# Altium footprint library Connectors.PcbLib: 19 footprints (part 1 of 2)
Each footprint in its own frame and in the unit in brackets; x right, y up, seen from the top. Pads: shape width x height; smd on the part's side, far side on the other; paste and mask are expansions set on the pad; w line width, h text height; cw(c..) or ccw(c..) is an arc to the next point about the centre after c.
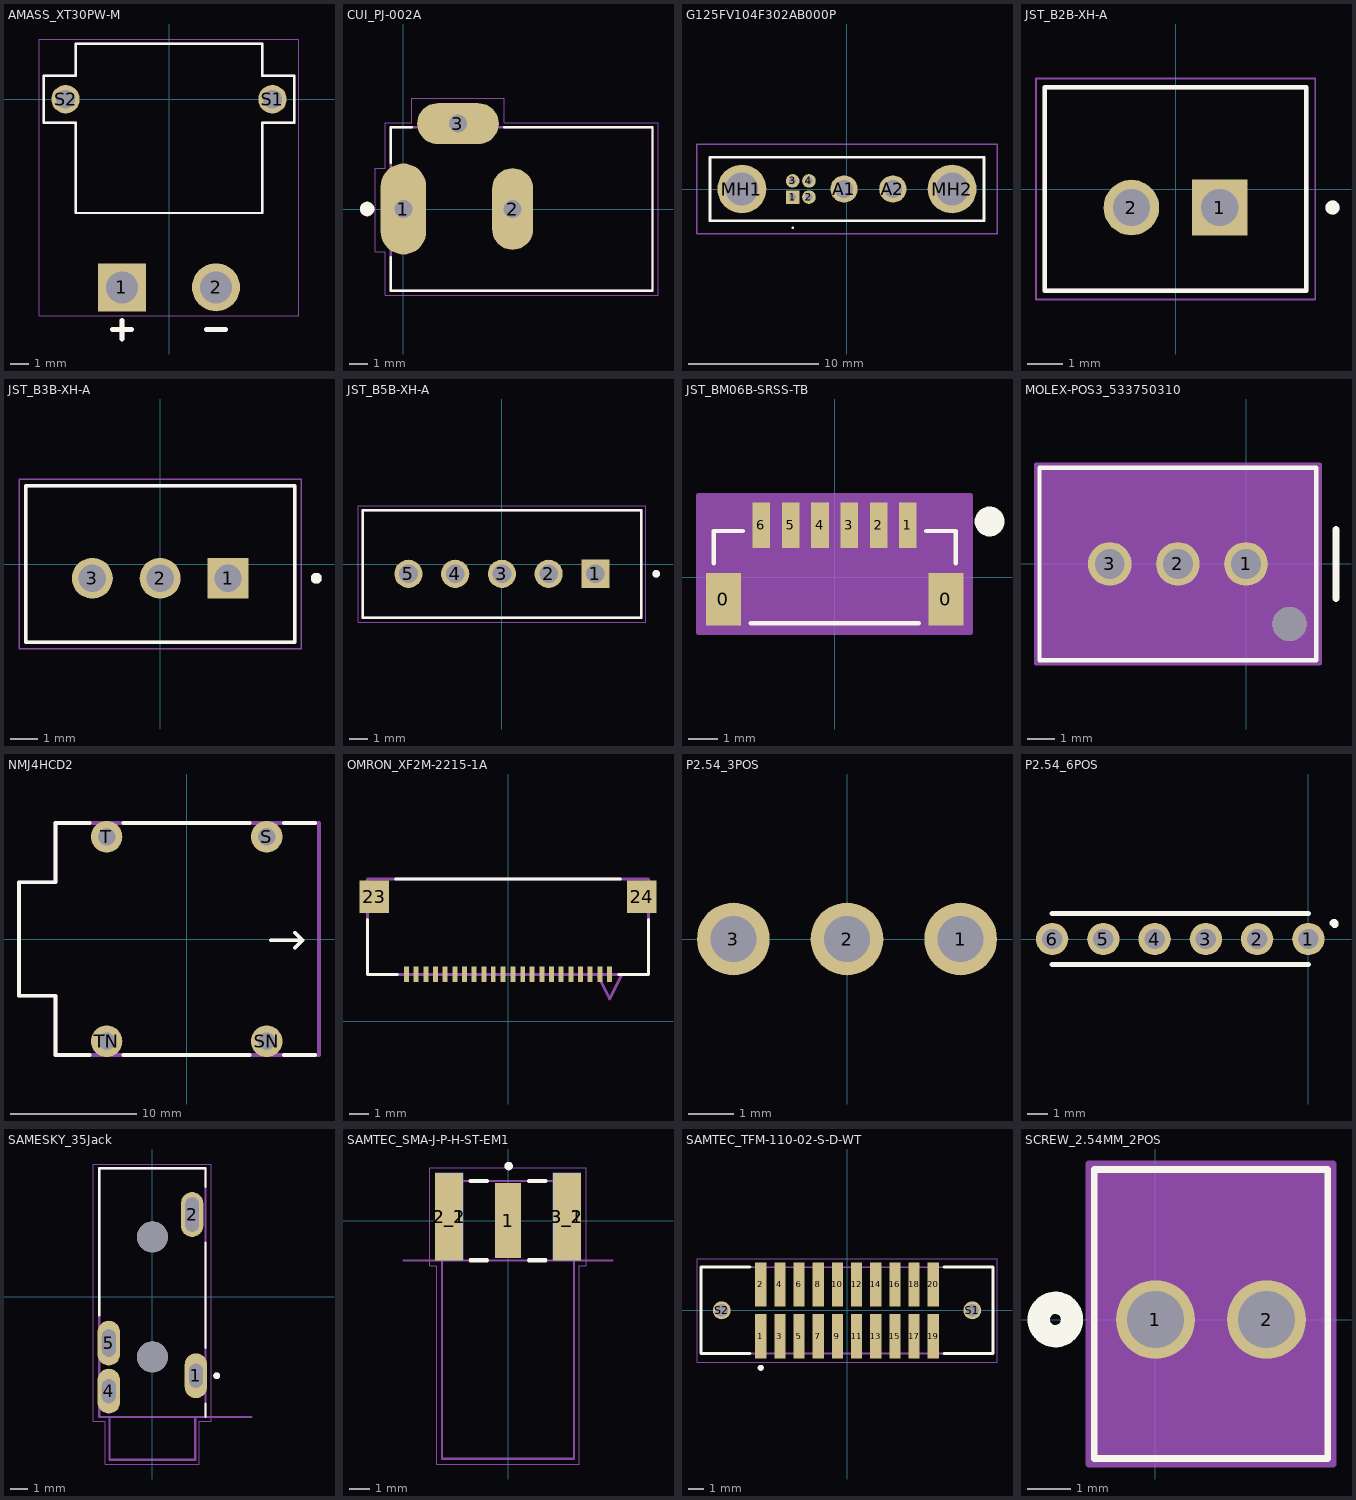
[diagram p0: the footprints below, top view; thin cyan lines are the x and y axes]

## AMASS_XT30PW-M [mm]
height 5
pads (4):
  rect 2.55x2.55 / inner round 2.55 / far side rect 2.55x2.55 hole 1.7: 1(-2.5,-10)
  round 2.55 hole 1.7: 2(2.5,-10)
  round 1.508 hole 1: S1(5.5,0) S2(-5.5,0)
Top Overlay:
  lines w0.127: -6.65,-1.25 -4.95,-1.25 -4.95,-6.05 4.95,-6.05 4.95,-1.25 6.65,-1.25 6.65,1.25 4.95,1.25 4.95,2.95 -4.95,2.95 -4.95,1.25 -6.65,1.25 -6.65,-1.25
  lines w0.254: -3,-12.25 -2,-12.25 ; -2.5,-12.75 -2.5,-11.75 ; 2,-12.25 3,-12.25
Mechanical 13:
  lines w0.127: -6.65,-1.25 -4.95,-1.25 -4.95,-6.05 4.95,-6.05 4.95,-1.25 6.65,-1.25 6.65,1.25 4.95,1.25 4.95,2.95 -4.95,2.95 -4.95,1.25 -6.65,1.25 -6.65,-1.25
  lines w0.254: -3,-12.25 -2,-12.25 ; -2.5,-12.75 -2.5,-11.75 ; 2,-12.25 3,-12.25
Mechanical 15:
  lines w0.05: -6.9,-11.525 -6.9,3.2 6.9,3.2 6.9,-11.525 -6.9,-11.525
3D body "step_temp.STEP": height 5, standoff -2, extent -6.65,-11 6.65,2.95

## CUI_PJ-002A [mm]
pads (3):
  oval 2.5x5 hole 1 square: 1(0,0)
  oval 2.25x4.5 hole 1 square: 2(6,0)
  oval 4.5x2.25 hole 1 square: 3(3,4.7)
Top Overlay:
  circle w0.4: c-2,0 r0.2
  lines w0.127: -0.7,-2.65 -0.7,-4.5 13.7,-4.5 13.7,4.5 5.55,4.5 ; -0.7,2.55 -0.7,4.5 0.45,4.5
Mechanical 13:
  lines w0.127: -0.7,-4.5 13.7,-4.5 13.7,4.5 -0.7,4.5 -0.7,-4.5
Mechanical 15:
  lines w0.05: -1.55,-2.35 -1.55,2.25 -1,2.25 -1,4.75 0.45,4.75 0.45,6.1 5.55,6.1 5.55,4.75 14,4.75 14,-4.75 -1,-4.75 -1,-2.35 -1.55,-2.35
3D body "step_temp.STEP": height 11.1, standoff -3.39, extent -0.635,-4.446 13.765,4.954

## G125FV104F302AB000P [mm]
pads (8):
  rect 1.05x1.05 hole 0.55: 1(-4.175,-0.625)
  round 1.05 hole 0.55: 2(-2.925,-0.625) 3(-4.175,0.625) 4(-2.925,0.625)
  round 2.1 hole 1.4: A1(-0.225,0) A2(3.525,0)
  round 3.75 hole 2.5: MH1(-8.075,0) MH2(8.075,0)
Top Overlay:
  lines w0.1: -4.175,-3.025 ccw(c-4.175,-2.975) -4.175,-2.925 ccw(c-4.175,-2.975) -4.175,-3.025
  lines w0.2: -10.525,-2.45 -10.525,2.45 10.525,2.45 10.525,-2.45 -10.525,-2.45
Mechanical 13:
  lines w0.1: -10.525,-2.45 10.525,-2.45 10.525,2.45 -10.525,2.45 -10.525,-2.45
Mechanical 15:
  lines w0.1: -11.525,-3.45 11.525,-3.45 11.525,3.45 -11.525,3.45 -11.525,-3.45
3D body "G125-FV104F3-02AB000P.stp": height 5.4, standoff -4.85, extent -10.525,-2.455 10.525,2.445

## JST_B2B-XH-A [mm]
height 7
pads (2):
  rect 1.575x1.575 / inner round 1.575 / far side rect 1.575x1.575 hole 1.05: 1(1.25,-0.525)
  round 1.575 hole 1.05: 2(-1.25,-0.525)
Top Overlay:
  circle w0.2: c4.44,-0.525 r0.1
  lines w0.127: -3.7,-2.875 3.7,-2.875 3.7,2.875 -3.7,2.875 -3.7,-2.875
Mechanical 13:
  circle w0.2: c4.44,-0.525 r0.1
  lines w0.127: -3.7,-2.875 3.7,-2.875 3.7,2.875 -3.7,2.875 -3.7,-2.875
Mechanical 15:
  lines w0.05: -3.95,-3.125 -3.95,3.125 3.95,3.125 3.95,-3.125 -3.95,-3.125
3D body "B2B-XH-A.STEP": height 7, standoff -3.4, extent -3.7,-2.875 3.7,2.875

## JST_B3B-XH-A [mm]
height 7
pads (3):
  rect 1.508x1.508 / inner round 1.508 / far side rect 1.508x1.508 hole 1: 1(2.5,-0.525)
  round 1.508 hole 1: 2(0,-0.525) 3(-2.5,-0.525)
Top Overlay:
  circle w0.2: c5.75,-0.525 r0.1
  lines w0.127: -4.95,-2.875 -4.95,2.875 4.95,2.875 4.95,-2.875 -4.95,-2.875
Mechanical 13:
  circle w0.2: c5.75,-0.525 r0.1
  lines w0.127: -4.95,-2.875 -4.95,2.875 4.95,2.875 4.95,-2.875 -4.95,-2.875
Mechanical 15:
  lines w0.05: -5.2,-3.125 -5.2,3.125 5.2,3.125 5.2,-3.125 -5.2,-3.125
3D body "step_temp.STEP": height 7, standoff -3.4, extent -4.95,-2.875 4.95,2.875

## JST_B5B-XH-A [mm]
height 7
pads (5):
  rect 1.508x1.508 / inner round 1.508 / far side rect 1.508x1.508 hole 1: 1(5,-0.525)
  round 1.508 hole 1: 2(2.5,-0.525) 3(0,-0.525) 4(-2.5,-0.525) 5(-5,-0.525)
Top Overlay:
  circle w0.2: c8.25,-0.525 r0.1
  lines w0.127: -7.45,-2.875 -7.45,2.875 7.45,2.875 7.45,-2.875 -7.45,-2.875
Mechanical 13:
  circle w0.2: c8.25,-0.525 r0.1
  lines w0.127: -7.45,-2.875 -7.45,2.875 7.45,2.875 7.45,-2.875 -7.45,-2.875
Mechanical 15:
  lines w0.05: -7.7,-3.125 -7.7,3.125 7.7,3.125 7.7,-3.125 -7.7,-3.125
3D body "step_temp.STEP": height 7, standoff -3.4, extent -7.45,-2.875 7.45,2.875

## JST_BM06B-SRSS-TB [mm]
pads (8):
  rect 1.2x1.8 smd paste+0 mask+0: 0(-3.8,-0.752) 0(3.8,-0.752)
  rect 0.6x1.55 smd paste+0 mask+0: 1(2.5,1.773) 2(1.5,1.773) 3(0.5,1.773) 4(-0.5,1.773) 5(-1.5,1.773) 6(-2.5,1.773)
Top Overlay:
  circle w0.508: c5.289,1.9 r0.254
  lines w0.152: -4.127,0.481 -4.127,1.575 -3.133,1.575 ; -2.867,-1.575 2.867,-1.575 ; 3.133,1.575 4.127,1.575 4.127,0.481
Bottom Overlay:
  circle w0.254: c5.289,1.9 r0.254
Mechanical 13:
  circle w0.508: c2.5,1.773 r0.381
  lines w0.025: -4,-1.448 4,-1.448 4,1.448 -4,1.448 -4,-1.448
Mechanical 15:
  region: 4.654,2.802 -4.654,2.802 -4.654,-1.906 4.654,-1.906
  lines w0.152: -4.654,-1.906 -4.654,2.802 4.654,2.802 4.654,-1.906 -4.654,-1.906
3D body "BM06B-SRSS-TB.STEP": height 4.25, standoff 0, extent -4,-1.462 4,2.138

## MOLEX-POS3_533750310 [mil] "Mini-Lock Connectors"
pads (3):
  round 63 / inner round 60 / far side round 63 hole 43 paste-99999 mask+0: 1(0,0) 2(-98.43,0) 3(-196.85,0)
via 62.99,-86.61 diameter 49 hole 49
Top Overlay:
  lines w6: -298.43,-139.14 101.57,-139.14 101.57,138.86 -298.43,138.86 -298.43,-139.14
  lines w10: 130,-50 130,50
Mechanical 13:
  circle w20: c0,75 r15
  lines w1: -293.43,-134.14 96.57,-134.14 96.57,133.86 -293.43,133.86 -293.43,-134.14
Mechanical 15:
  region: 106.57,143.86 -303.43,143.86 -303.43,-144.14 106.57,-144.14
  lines w6: -303.43,-144.14 -303.43,143.86 106.57,143.86 106.57,-144.14 -303.43,-144.14
3D body "0533750310.stp": height 453.56, standoff -133.2, extent -294,-134.86 95.76,132.86

## NMJ4HCD2 [mm]
pads (4):
  round 2.5 hole 1.4: S(6.35,8.115) SN(6.35,-8.115) T(-6.35,8.115) TN(-6.35,-8.115)
Top Overlay:
  lines w0.2: 9.2,-0.1 9.2,-0.1 ; 9.2,-0.1 9.2,-0.1
  lines w0.3: -7.7,-9.2 -10.4,-9.2 -10.4,-4.5 -13.3,-4.5 -13.3,4.5 -10.5,4.5 -10.4,4.5 -10.4,9.2 -7.7,9.2 ; -5,-9.2 5,-9.2 ; -5,9.2 5,9.2 ; 6.7,-0.1 9.2,-0.1 ; 7.7,-9.2 10.2,-9.2 ; 7.7,9.2 10.2,9.2 ; 8.6,-0.7 9.2,-0.1 ; 8.6,0.5 9.2,-0.1
Mechanical 13:
  lines w0.2: 9.2,-0.1 9.2,-0.1 ; 9.2,-0.1 9.2,-0.1
  lines w0.3: 6.7,-0.1 9.2,-0.1 ; 8.6,-0.7 9.2,-0.1 ; 8.6,0.5 9.2,-0.1 ; -13.3,-4.5 -10.4,-4.5 -10.4,-9.2 10.5,-9.2 10.5,9.2 -10.4,9.2 -10.4,4.5 -10.5,4.5 -13.3,4.5 -13.3,-4.5
  text "'.Designator'" at -5.665,-0.417 h1
3D body "NMJ4HCD20.stp": height 15.68, standoff -3.99, extent -13.18,-9.1 13.35,9.1

## OMRON_XF2M-2215-1A [mil]
pads (24):
  rect 10x32 smd: 1(207,96) 2(187,96) 3(167,96) 4(148,96) 5(128,96) 6(108,96) 7(89,96) 8(69,96) 9(49,96) 10(30,96) 11(10,96) 12(-10,96) 13(-30,96) 14(-49,96) 15(-69,96) 16(-89,96) 17(-108,96) 18(-128,96) 19(-148,96) 20(-167,96) 21(-187,96) 22(-207,96)
  rect 60x67 smd: 23(-272,254) 24(272,254)
Top Overlay:
  lines w6: -286,208 -286,96 -225,96 ; -229,290 229,290 ; 225,96 286,96 286,208
  text "." at 205,55 h30
Mechanical 13:
  lines w6: 182,96 207,46 232,96 ; -286,96 -286,290 286,290 286,96 -286,96
3D body "step_temp.STEP": height 78.74, standoff 0, extent -297.24,57.72 297.24,290

## P2.54_3POS [mil] "2.54mm 3 position 0.1\" male header pins"
pads (3):
  round 63 / inner round 60 / far side round 63 hole 40 paste-99999 mask+0: 1(98.43,0) 2(0,0) 3(-98.43,0)
3D body "Download_STP_61300311121+(rev1).stp": height 336.22, standoff -118.11, extent -150,-50 150,50

## P2.54_6POS [mil] "2.54mm 6 position 0.1\" male header pins"
pads (6):
  round 63 / inner round 60 / far side round 63 hole 40 paste-99999 mask+0: 1(0,0) 2(-100,0) 3(-200,0) 4(-300,0) 5(-400,0) 6(-500,0)
Top Overlay:
  lines w10: -500,-50 0,-50 ; -500,50 0,50 ; 46.06,30 cw(c50,30) 50,26.06

## SAMESKY_35Jack [mm]
height 5.3
pads (6):
  oval 1.308x2.616 hole 0.8 slot 1.4 at 90 deg: 1(2.54,-4.6) 4(-2.54,-5.5)
  oval 1.308x2.616 hole 0.8 slot 2 at 90 deg: 2(2.32,4.8)
  oval 1.308x2.616 hole 0.8 slot 1.6 at 90 deg: 5(-2.54,-2.7)
  round 1.8 hole 1.8 unplated: ""(0,-3.5) ""(0,3.5)
Top Overlay:
  circle w0.2: c3.75,-4.6 r0.1
  lines w0.127: -3.1,-1.072 -3.1,7.5 3.1,7.5 3.1,6.428 ; 3.1,-7 3.1,-6.228 ; 3.1,-2.972 3.1,3.172
Mechanical 13:
  circle w0.2: c3.75,-4.6 r0.1
  lines w0.127: 5.79,-7 3.1,-7 ; -2.5,-7 2.5,-7 ; -2.5,-7 -3.1,-7 -3.1,7.5 3.1,7.5 3.1,-7 ; -2.5,-7 -2.5,-9.5 2.5,-9.5 2.5,-7 ; 2.5,-7 3.1,-7
  text "PCB EDGE" at 3.54,-6.85 h0.81
Mechanical 15:
  lines w0.05: -3.444,-7.25 -2.75,-7.25 -2.75,-9.75 2.75,-9.75 2.75,-7.25 3.444,-7.25 3.444,7.75 -3.444,7.75 -3.444,-7.25
3D body "step_temp.STEP": height 5.04, standoff -1.56, extent -3.152,-9.516 3.048,7.484

## SAMTEC_SMA-J-P-H-ST-EM1 [mm]
height 3.675
pads (5):
  rect 1.27x3.6 smd: 1(0,0)
  rect 1.35x4.2 smd: 2_1(-2.825,0.2) 3_1(2.825,0.2)
  rect 1.35x4.2 smd far side: 2_2(-2.825,0.2) 3_2(2.825,0.2)
Top Overlay:
  circle w0.2: c0.03,2.62 r0.1
  lines w0.2: -1.8,-1.9 -1,-1.9 ; -1.8,1.91 -1,1.91 ; 1,-1.9 1.8,-1.9 ; 1,1.91 1.8,1.91
Mechanical 13:
  circle w0.2: c0.03,2.62 r0.1
  lines w0.1: -5,-1.9 -3.165,-1.9 ; 5,-1.9 3.165,-1.9 ; -3.165,-1.9 -3.165,-11.42 3.165,-11.42 3.165,-1.9 ; -3.165,-1.9 3.165,-1.9 ; -3.165,-1.9 -3.175,1.91 3.175,1.91 3.165,-1.9
  text "PCB EDGE" at 4.304,-1.702 h0.61
Mechanical 15:
  lines w0.05: -3.75,-2.15 -3.415,-2.15 -3.415,-11.67 3.415,-11.67 3.415,-2.15 3.75,-2.15 3.75,2.55 -3.75,2.55 -3.75,-2.15
3D body "step_temp.STEP": height 3.55, standoff -2.8, extent -3.175,-11.42 3.175,1.91

## SAMTEC_TFM-110-02-S-D-WT [mm]
pads (22):
  rect 0.74x2.92 smd: 1(-5.715,-1.715) 2(-5.715,1.715) 3(-4.445,-1.715) 4(-4.445,1.715) 5(-3.175,-1.715) 6(-3.175,1.715) 7(-1.905,-1.715) 8(-1.905,1.715) 9(-0.635,-1.715) 10(-0.635,1.715) 11(0.635,-1.715) 12(0.635,1.715) 13(1.905,-1.715) 14(1.905,1.715) 15(3.175,-1.715) 16(3.175,1.715) 17(4.445,-1.715) 18(4.445,1.715) 19(5.715,-1.715) 20(5.715,1.715)
  round 1.19 hole 0.84: S1(8.305,0) S2(-8.305,0)
Top Overlay:
  circle w0.2: c-5.715,-3.81 r0.1
  lines w0.2: -6.435,-2.86 -9.69,-2.86 -9.69,2.86 -6.435,2.86 ; 6.435,-2.86 9.69,-2.86 9.69,2.86 6.435,2.86
Top Paste:
  circle w0.955: c8.305,0 r0.477
  circle w0.955: c-8.305,0 r0.477
Mechanical 13:
  circle w0.2: c-5.715,-3.81 r0.1
  lines w0.1: -9.69,-2.86 -9.69,2.86 9.69,2.86 9.69,-2.86 -9.69,-2.86
Mechanical 15:
  lines w0.05: -9.94,-3.425 -9.94,3.425 9.94,3.425 9.94,-3.425 -9.94,-3.425
3D body "TFM-110-02-S-D-WT.stp": height 5.59, standoff -2.36, extent -9.69,-2.908 9.69,3.061

## SCREW_2.54MM_2POS [mil]
pads (2):
  round 71 / inner round 60 / far side round 71 hole 51 paste-99999 mask+0: 1(0,0) 2(100,0)
Top Overlay:
  circle w20: c-90,0 r15
  lines w6: -55,-125 -55,134.92 155,134.92 155,-125 96.42,-125 3.58,-125 -21.7,-125 -35.8,-125 -55,-125
Bottom Overlay:
  circle w20: c-90,0 r15
Mechanical 13:
  circle w20: c0,75 r15
  lines w1: -50,-126.08 150,-126.08 150,129.92 -50,129.92 -50,-126.08
Mechanical 15:
  region: 160,139.92 -60,139.92 -60,-125 160,-125
  lines w6: -60,-130 -60,139.92 160,139.92 160,-130 111.08,-130 -24.83,-130 -40.17,-130 -60,-130
3D body "691210910002.stp": height 335.19, standoff -137.25, extent -57.87,-122.95 157.87,132.95